# EAGLE library part LDB182G4520C (library X893)
2.4GHz Balun http://search.murata.co.jp/Ceramy/CatalogAction.do?sHinnm=LDB10C201A2450&sNHinnm=LDB182G4520C-110&sNhin_key=LDB182G4520C-110&sLang=en&sParam=secondary
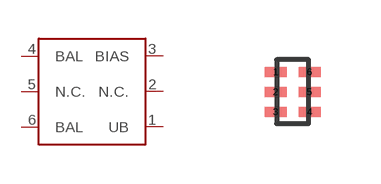
[diagram p88: symbol with the pads of LDB182G4520C; footprint LDB182G4520C]

Designator prefix U

## LDB182G4520C  [LDB182G4520C]
1  UB
2  N.C.  nc
3  BIAS
4  BAL
5  N.C.  nc
6  BAL

## Footprint LDB182G4520C (pad centres in mm)
http://search.murata.co.jp/Ceramy/CatalogAction.do?sHinnm=LDB10C201A2450&sNHinnm=LDB182G4520C-110&sNhin_key=LDB182G4520C-110&sLang=en&sParam=secondary
smd 0.55 x 0.25: 1 -0.425,0.5; 2 -0.425,0; 3 -0.425,-0.5; 4 0.425,-0.5; 5 0.425,0; 6 0.425,0.5